# EAGLE library part 750313527 (library Wurth_Power Magnetics_WE-FLYTI)
WE-FLYTI Flyback Transformers Characteristics Low leakage inductance Multiple package sizes Wide range input voltages Different output voltages available Isolation voltage: up to 3000VAC Lead free and RoHS compliant Operating temp: -40°C to 125°C Applications Industrial and medical power supplies Auxiliary power supplies Home automation Isolated DC/DC power supplies <https://www.we-online.com/components/media/o795300v209%20FAMILY-MID-FLYTI.jpg> Details see: www.we-online.com/en/components/products/WE-FLYTI <www.we-online.com/catalog/WE-FLYTI/?utm_source=eagle_model&utm_medium=description_link&utm_campaign=eisos_eagle> Created by Ella Wu 2024-07-03 2024 (C) Wurth Elektronik
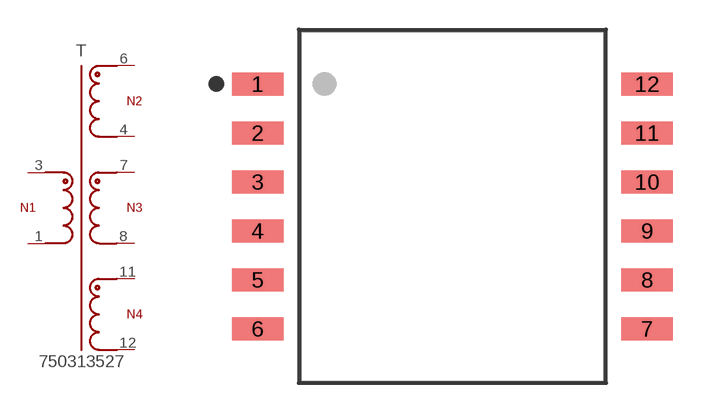
[diagram p14: symbol with the pads of WE-FLYTI_EFD15_4265; footprint WE-FLYTI_EFD15_4265]

Designator prefix T

## 750313527 (DATASHEET-URL: https://www.we-online.com/redexpert/spec/750313527?ae; IOUT1: 60mA; IOUT2: 60mA; IOUT3: 60mA; ISAT: 5.8A; L: 10uH; LS: 400nH; MOUNT: SMT; N: 1.9:1:1.5:3.8; PART-NUMBER: 750313527; SIZE: EFD15; VALUE: 750313527; VIN: 4.5 - 16 V (DC); VOUT1: 3.3V; VOUT2: 5V; VOUT3: 18V; VT: 2500V(AC))  [WE-FLYTI_EFD15_4265]
1  1  pas
3  3  pas
4  4  pas
6  6  pas
7  7  pas
8  8  pas
11  11  pas
12  12  pas

## Footprint WE-FLYTI_EFD15_4265 (pad centres in mm)
WE-FLYTI Flyback Transformers Size:EFD15,SMT,8pins Bobbin: 070-4265
smd 2.62 x 1.17: 1 -9.895,6.223; 2 -9.895,3.735; 3 -9.895,1.245; 4 -9.895,-1.245; 5 -9.895,-3.735; 6 -9.895,-6.225; 7 9.895,-6.225; 8 9.895,-3.735; 9 9.895,-1.245; 10 9.895,1.245; 11 9.895,3.735; 12 9.895,6.223